# Altium footprint library Capc.PcbLib: 1 footprints
Each footprint in its own frame and in the unit in brackets; x right, y up, seen from the top. Pads: shape width x height; smd on the part's side, far side on the other; paste and mask are expansions set on the pad; w line width, h text height; cw(c..) or ccw(c..) is an arc to the next point about the centre after c.
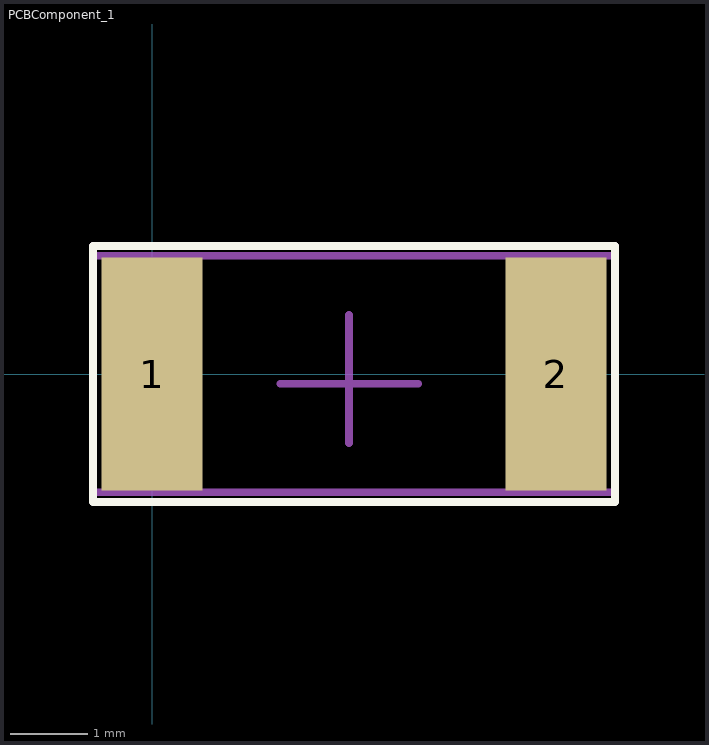
[diagram p0: the footprint, top view; thin cyan lines are the x and y axes]

## PCBComponent_1 [mm]
pads (2):
  rect 1.3x3 smd: 1(0,0) 2(5.207,0)
Top Overlay:
  lines w0.1: -0.762,-1.651 -0.762,1.651 5.969,1.651 5.969,-1.651 -0.762,-1.651
Mechanical 13:
  lines w0.1: -0.762,-1.524 -0.762,1.524 5.969,1.524 5.969,-1.524 -0.762,-1.524
Mechanical 15:
  lines w0.1: 1.651,-0.127 3.429,-0.127 ; 2.54,-0.889 2.54,0.762 ; -0.762,-1.524 -0.762,1.651 5.969,1.651 5.969,-1.524 -0.762,-1.524